# Altium footprint library 2194MST.PcbLib: 1 footprints
Each footprint in its own frame and in the unit in brackets; x right, y up, seen from the top. Pads: shape width x height; smd on the part's side, far side on the other; paste and mask are expansions set on the pad; w line width, h text height; cw(c..) or ccw(c..) is an arc to the next point about the centre after c.
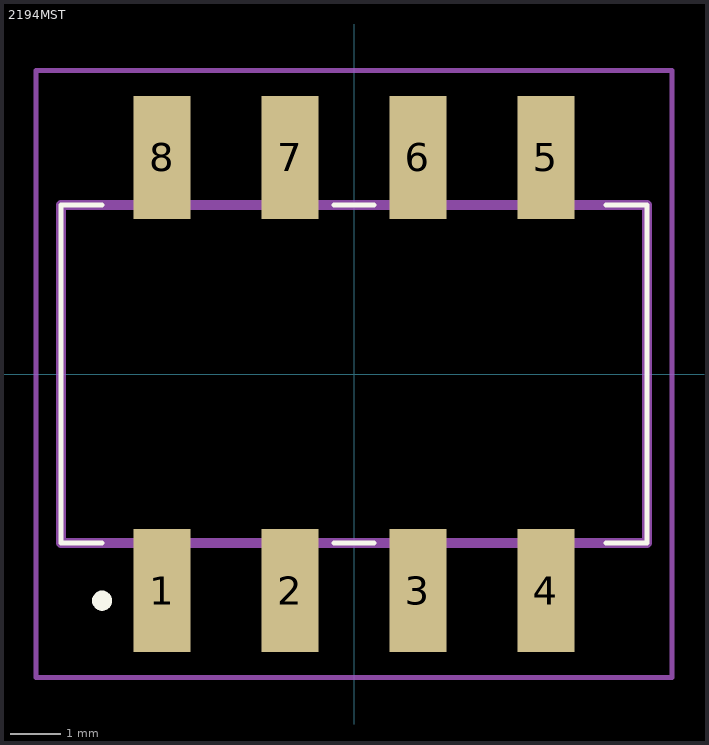
[diagram p0: the footprint, top view; thin cyan lines are the x and y axes]

## 2194MST [mm]
pads (8):
  rect 1.13x2.44 smd: 1(-3.81,-4.3) 2(-1.27,-4.3) 3(1.27,-4.3) 4(3.81,-4.3) 5(3.81,4.3) 6(1.27,4.3) 7(-1.27,4.3) 8(-3.81,4.3)
Top Overlay:
  lines w0.1: -5,-3.35 -5.815,-3.35 -5.815,3.35 -5,3.35 ; -0.4,-3.35 0.4,-3.35 ; -0.4,3.35 0.4,3.35 ; 5,-3.35 5.815,-3.35 5.815,3.35 5,3.35
  lines w0.2: -5,-4.6 cw(c-5,-4.5) -5,-4.4 ; -5,-4.6 -5,-4.6 ; -5,-4.6 ccw(c-5,-4.5) -5,-4.4 ; -5,-4.4 -5,-4.4
Mechanical 15:
  lines w0.2: -5.815,-3.35 5.815,-3.35 5.815,3.35 -5.815,3.35 -5.815,-3.35
Mechanical 20:
  lines w0.1: -6.315,-6.02 6.315,-6.02 6.315,6.02 -6.315,6.02 -6.315,-6.02